# Altium integrated library PersonalLib.IntLib: 51 symbols
Pins are listed as number, name and electrical type; pins without a type are passive.

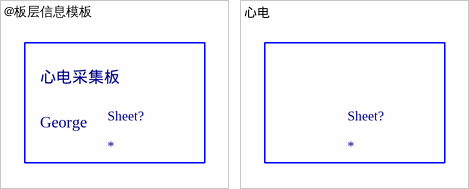
[diagram p0: symbols @板层信息模板 to 心电]

## @板层信息模板
designator Sheet?
text: 心电采集板; George

## 心电
designator Sheet?
footprint 心电V1.0.1


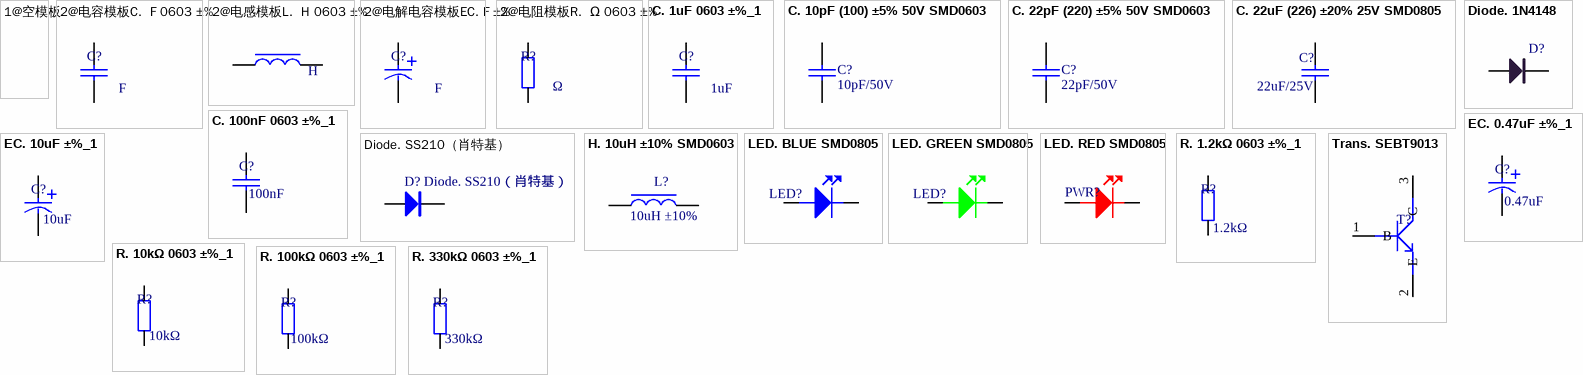
[diagram p1: symbols 1@空模板 to Trans. SEBT9013]

## 1@空模板
designator ?  (value not drawn)
A.元件编号: *; B.元件名称: *; C.元件类型: *; D.元件型号: *; E.封装规格: *; F.阻值(Ω)/容值(μF): *; G.电压: *; H.精度: *; I.焊盘数量: *; J.品牌产地: *; 单价/元: *; 原创: *; 备注: *

## 2@电容模板C.  F 0603 ±%
designator C?, comment value F  (hidden comment: 2@电容模板 F 0603 ±%)
A.元件编号: *; B.元件名称: *; C.元件类型: *; D.元件型号: *; E.封装规格: *; F.阻值(Ω)/容值(μF): *; G.电压: *; H.精度: *; I.焊盘数量: *; J.品牌产地: *; 单价/元: *; 原创: *; 备注: *
footprint C 0603
pins: 1, 2

## 2@电感模板L.  H 0603 ±%
designator ?  value H
A.元件编号: *; B.元件名称: *; C.元件类型: *; D.元件型号: *; E.封装规格: *; F.阻值(Ω)/容值(μF): *; G.电压: *; H.精度: *; I.焊盘数量: *; J.品牌产地: *; 单价/元: *; 原创: *; 备注: *
footprint L 0603
pins: 1, 2

## 2@电解电容模板EC. F ±%
designator C?, comment value F  (hidden comment: 2@电解电容模板 F ±%)
A.元件编号: *; B.元件名称: *; C.元件类型: *; D.元件型号: *; E.封装规格: *; F.阻值(Ω)/容值(μF): *; G.电压: *; H.精度: *; I.焊盘数量: *; J.品牌产地: *; 单价/元: *; 原创: *; 备注: *
footprint SMD 4x5.3mm 0.47uf
footprint SMD 4x5.7mm 10uf
pins: 1, 2

## 2@电阻模板R.  Ω 0603 ±%
designator R?  value Ω
A.元件编号: *; B.元件名称: *; C.元件类型: *; D.元件型号: *; E.封装规格: *; F.阻值(Ω)/容值(μF): *; G.电压: *; H.精度: *; I.焊盘数量: *; J.品牌产地: *; 单价/元: *; 原创: *; 备注: *
footprint R 0603
pins: 1, 2

## C. 1uF 0603 ±%_1
designator C?  value 1uF  (hidden comment: C. 1uF 0603 ±%_1)
A.元件编号: *; B.元件名称: *; C.元件类型: *; D.元件型号: *; E.封装规格: *; F.阻值(Ω)/容值(μF): *; G.电压: *; H.精度: *; I.焊盘数量: *; J.品牌产地: *; 单价/元: *; 原创: *; 备注: *
footprint C 0603
pins: 1, 2

## C. 10pF (100) ±5% 50V SMD0603
designator C?  value 10pF/50V  (hidden comment: C. 10pF (100) ±5% 50V SMD0603)
贴片电容，10pF/50V，±5%，SMD0603，SAMSUNG(三星)，CL10C100JB8NNNC; A.元件编号: C1634; C.元件类别: 贴片电容; E.封装规格: 0603; F.阻值(Ω)/容值(uF): 0.0000100000; G.电压: 50.00; I.焊盘数量: 2; 备注: 立创可贴片元器件; 单价/元（大批量）: 0.0066; B.元件名称: 10pF (100) ±5% 50V; D.元件型号: CL10C100JB8NNNC; H.精度: ±5%; J.品牌产地: SAMSUNG(三星)
footprint C 0603 (无极性贴片电容)
pins: 1, 2

## C. 22pF (220) ±5% 50V SMD0603
designator C?  value 22pF/50V  (hidden comment: C. 22pF (220) ±5% 50V SMD0603)
贴片电容，22pF/50V，±5%，SMD0603，SAMSUNG(三星)，CL10C220JB8NNNC; A.元件编号: C1653; C.元件类别: 贴片电容; E.封装规格: 0603; F.阻值(Ω)/容值(uF): 0.0000220000; G.电压: 50.00; I.焊盘数量: 2; 备注: 立创可贴片元器件; 单价/元（大批量）: 0.0067; B.元件名称: 22pF (220) ±5% 50V; D.元件型号: CL10C220JB8NNNC; H.精度: ±5%; J.品牌产地: SAMSUNG(三星)
footprint C 0603 (无极性贴片电容)
pins: 1, 2

## C. 22uF (226) ±20% 25V SMD0805
designator C?  value 22uF/25V  (hidden comment: C. 22uF (226) ±20% 25V SMD0805)
贴片电容，22uF/25V，±20%，SMD0805，SAMSUNG(三星)，CL21A226MAQNNNE; A.元件编号: C45783; C.元件类别: 贴片电容; E.封装规格: 0805; F.阻值(Ω)/容值(uF): 22.0000000000; G.电压: 25.00; I.焊盘数量: 2; 备注: 立创可贴片元器件; 单价/元（大批量）: 0.134; B.元件名称: 22uF (226) ±20% 25V; D.元件型号: CL21A226MAQNNNE; H.精度: ±20%; J.品牌产地: SAMSUNG(三星)
footprint C 0805 (无极性贴片电容)
pins: 1, 2

## C. 100nF 0603 ±%_1
designator C?, comment value 100nF  (hidden comment: 100nF 0603 ±%_1)
A.元件编号: *; B.元件名称: *; C.元件类型: *; D.元件型号: *; E.封装规格: *; F.阻值(Ω)/容值(μF): *; G.电压: *; H.精度: *; I.焊盘数量: *; J.品牌产地: *; 单价/元: *; 原创: *; 备注: *
footprint C 0603
pins: 1, 2

## Diode. 1N4148
designator D?
C.元件类别: 二极管; I.焊盘数量: 2; F.阻值(Ω)/容值(uF): *; Value: *; H.精度: *
footprint SOD-123 (1N4148W)
pins: 1 A, 2 K

## Diode. SS210（肖特基）
designator D?
肖特基二极管，SS210，100V/2A，SMA(DO-214AC)，星海，SS210; A.元件编号: C14996; D.元件型号: SS210; C.元件类别: 二极管; 备注: 立创可贴片元器件; I.焊盘数量: 2; J.品牌产地: MMD; 单价/元（大批量）: 0.0895; G.电压: 100V，2A，VF=0.85V@2A; F.阻值(Ω)/容值(uF): *; Value: *; B.元件名称: SS210; E.封装规格: SMA(DO-214AC); H.精度: *
footprint SMA
pins: 1 A, 2 K

## EC. 0.47uF ±%_1
designator C?, comment value 0.47uF  (hidden comment: ec 0.47uF ±%_1)
A.元件编号: *; B.元件名称: *; C.元件类型: *; D.元件型号: *; E.封装规格: *; F.阻值(Ω)/容值(μF): *; G.电压: *; H.精度: *; I.焊盘数量: *; J.品牌产地: *; 单价/元: *; 原创: *; 备注: *
footprint SMD 4x5.3mm 0.47uf
pins: 1, 2

## EC. 10uF ±%_1
designator C?, comment value 10uF  (hidden comment: ec 10uF ±%_1)
A.元件编号: *; B.元件名称: *; C.元件类型: *; D.元件型号: *; E.封装规格: *; F.阻值(Ω)/容值(μF): *; G.电压: *; H.精度: *; I.焊盘数量: *; J.品牌产地: *; 单价/元: *; 原创: *; 备注: *
footprint SMD 4x5.7mm 10uf
pins: 1, 2

## H. 10uH ±10% SMD0603
designator L?  value 10uH ±10%  (hidden comment: H. 10uH ±10% SMD0603)
贴片电感，10uH，±10%，SMD0603，Sunlord(顺络)，SDFL1608S100KTF; A.元件编号: C1035; C.元件类别: 贴片电感; E.封装规格: 0603; F.阻值(Ω)/容值(uF): 10.0000000000; I.焊盘数量: 2; 备注: 立创可贴片元器件; 单价/元（大批量）: 0.038; B.元件名称: 10uH ±10%; D.元件型号: SDFL1608S100KTF; H.精度: ±10%; J.品牌产地: Sunlord(顺络)
footprint L 0603 (小功率贴片电感)
pins: 1, 2

## LED. BLUE SMD0805
designator LED?  (value not drawn)
蓝色发光二极管，SMD0805，国星光电，FC-A2012BK-470H2; A.元件编号: C84259; 备注: 立创可贴片元器件; B.元件名称: 蓝灯 贴片LED (20-55mcd) 编带; C.元件类别: 发光二极管; E.封装规格: 0805; I.焊盘数量: 2; J.品牌产地: 国星光电; 单价/元（大批量）: 0.0735; Value: *; D.元件型号: FC-A2012BK-470H2; F.阻值(Ω)/容值(uF): blue; G.电压: *; H.精度: *
footprint LED 0805B
pins: 1 A, 2 K

## LED. GREEN SMD0805
designator LED?  (value not drawn)
翠绿发光二极管 ，SMD0805，国产，0805G (翠绿); A.元件编号: C2297; 备注: 立创可贴片元器件; C.元件类别: 发光二极管; E.封装规格: 0805; I.焊盘数量: 2; J.品牌产地: 国产; 单价/元（大批量）: 0.052; B.元件名称: 翠绿; D.元件型号: 0805G (翠绿); F.阻值(Ω)/容值(uF): green; G.电压: *; H.精度: *; Value: *
footprint LED 0805G
pins: 1 A, 2 K

## LED. RED SMD0805
designator PWR?  (value not drawn)
红色发光二极管，SMD0805，国星光电 ，FC-2012HRK-620D; A.元件编号: C84256; 备注: 立创可贴片元器件; B.元件名称: 红灯 贴片LED (80-180mcd) 编带; C.元件类别: 发光二极管; E.封装规格: 0805（红色）; J.品牌产地: 国星光电; I.焊盘数量: 2; 单价/元（大批量）: 0.0452; D.元件型号: FC-2012HRK-620D; F.阻值(Ω)/容值(uF): red; G.电压: *; H.精度: *; Value: *
footprint LED 0805R
pins: 1 A, 2 K

## R. 1.2kΩ 0603 ±%_1
designator R?  value 1.2kΩ
A.元件编号: *; B.元件名称: *; C.元件类型: *; D.元件型号: *; E.封装规格: *; F.阻值(Ω)/容值(μF): *; G.电压: *; H.精度: *; I.焊盘数量: *; J.品牌产地: *; 单价/元: *; 原创: *; 备注: *
footprint R 0603
pins: 1, 2

## R. 10kΩ 0603 ±%_1
designator R?  value 10kΩ
A.元件编号: *; B.元件名称: *; C.元件类型: *; D.元件型号: *; E.封装规格: *; F.阻值(Ω)/容值(μF): *; G.电压: *; H.精度: *; I.焊盘数量: *; J.品牌产地: *; 单价/元: *; 原创: *; 备注: *
footprint R 0603
pins: 1, 2

## R. 100kΩ 0603 ±%_1
designator R?  value 100kΩ
A.元件编号: *; B.元件名称: *; C.元件类型: *; D.元件型号: *; E.封装规格: *; F.阻值(Ω)/容值(μF): *; G.电压: *; H.精度: *; I.焊盘数量: *; J.品牌产地: *; 单价/元: *; 原创: *; 备注: *
footprint R 0603
pins: 1, 2

## R. 330kΩ 0603 ±%_1
designator R?  value 330kΩ
A.元件编号: *; B.元件名称: *; C.元件类型: *; D.元件型号: *; E.封装规格: *; F.阻值(Ω)/容值(μF): *; G.电压: *; H.精度: *; I.焊盘数量: *; J.品牌产地: *; 单价/元: *; 原创: *; 备注: *
footprint R 0603
pins: 1, 2

## Trans. SEBT9013
designator T?, comment 1@空模板  (value not drawn)
NPN三级管 25V 500mA; A.元件编号: *; B.元件名称: *; C.元件类型: *; D.元件型号: *; E.封装规格: *; F.阻值(Ω)/容值(μF): *; G.电压: *; H.精度: *; I.焊盘数量: *; J.品牌产地: *; 单价/元: *; 原创: *; 备注: *
footprint SOT23-3
pins: 1 B, 2 E, 3 C


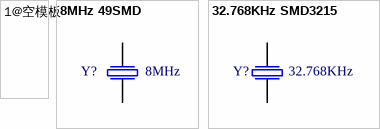
[diagram p2: symbols 1@空模板 to 32.768KHz SMD3215]

## 1@空模板
designator ?  (value not drawn)
A.元件编号: *; B.元件名称: *; C.元件类型: *; D.元件型号: *; E.封装规格: *; F.阻值(Ω)/容值(μF): *; G.电压: *; H.精度: *; I.焊盘数量: *; J.品牌产地: *; 单价/元: *; 原创: *; 备注: *

## 8MHz 49SMD
designator Y?  value 8MHz  (hidden comment: 8MHz 49SMD)
贴片晶振，49SMD， 8MHz，HC-49SMD，YXC; A.元件编号: C12674; 备注: 立创非可贴片元器件; B.元件名称: HC-49SMD 8MHZ 20PF 20PPM; D.元件型号: X49SM8MSD2SC; I.焊盘数量: 2; J.品牌产地: YXC; 单价/元（大批量）: 0.366; C.元件类别: 49SMD; E.封装规格: HC-49SMD; F.阻值(Ω)/容值(uF): *; G.电压: *; H.精度: *
footprint XTAL-49S SMD
pins: 1, 2

## 32.768KHz SMD3215
designator Y?  value 32.768KHz  (hidden comment: 32.768KHz SMD3215)
贴片晶振，SMD3215，32.768KHz，EPSON(爱普生)，Q13FC1350000400; 备注: 立创非可贴片元器件; B.元件名称: 32.768KHz ±20ppm 12.5pF; C.元件类别: 贴片晶振; A.元件编号: C32346; I.焊盘数量: 2; 单价/元（大批量）: 0.65; J.品牌产地: EPSON(爱普生); E.封装规格: SMD-3215; D.元件型号: Q13FC1350000400; F.阻值(Ω)/容值(uF): *; H.精度: *; G.电压: *
footprint XTAL-3215
pins: 1, 2


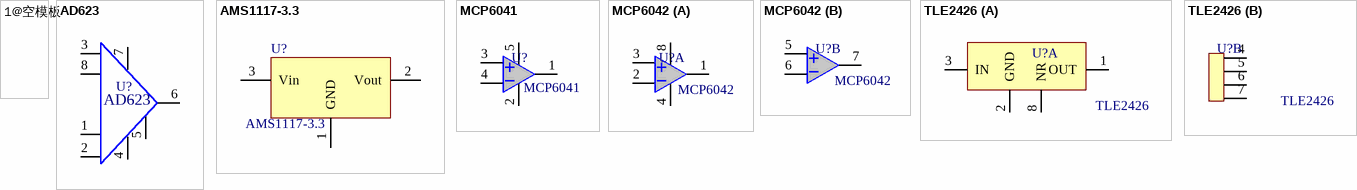
[diagram p3: symbols 1@空模板 to TLE2426]

## 1@空模板
designator ?  (value not drawn)
A.元件编号: *; B.元件名称: *; C.元件类型: *; D.元件型号: *; E.封装规格: *; F.阻值(Ω)/容值(μF): *; G.电压: *; H.精度: *; I.焊盘数量: *; J.品牌产地: *; 单价/元: *; 原创: *; 备注: *

## AD623
designator U?  (value not drawn)
仪表放大器; A.元件编号: *; B.元件名称: *; C.元件类型: *; D.元件型号: *; E.封装规格: *; F.阻值(Ω)/容值(μF): *; G.电压: *; H.精度: *; I.焊盘数量: *; J.品牌产地: *; 单价/元: *; 原创: *; 备注: *
footprint SOIC-8 (SOIC, 8-Leads, Body 4.90x3.90mm, Pitch 1.27mm, IPC Medium Density)
pins: 1, 2, 3, 4, 5, 6, 7, 8

## AMS1117-3.3
designator U?
低压差线性稳压(LDO)，AMS1117-3.3，1117-3.3，美国AMS，AMS1117-3.3; A.元件编号: C6186; 备注: 立创可贴片元器件; I.焊盘数量: 4; E.封装规格: SOT-223; J.品牌产地: 美国AMS; 单价/元（大批量）: 0.484; D.元件型号: AMS1117-3.3; C.元件类别: 低压差线性稳压(LDO); F.阻值(Ω)/容值(uF): 1117-3.3; Value: *; B.元件名称: AMS1117-3.3; H.精度: *; G.电压: *
footprint SOT223_N
pins: 1 GND, 2 Vout, 3 Vin

## MCP6041
designator U?
RTR运算放大器; A.元件编号: *; C.元件类型: *; D.元件型号: *; E.封装规格: *; F.阻值(Ω)/容值(μF): *; G.电压: *; H.精度: *; I.焊盘数量: *; J.品牌产地: *; 单价/元: *; 原创: *; 备注: *; B.元件名称: MCP6041
footprint SOT23-5 (SOT143-4 as used in SP0503BAHTG)
pins: 1, 2, 3, 4, 5

## MCP6042
designator U?
A.元件编号: *; C.元件类型: *; D.元件型号: *; E.封装规格: *; F.阻值(Ω)/容值(μF): *; G.电压: *; H.精度: *; I.焊盘数量: *; J.品牌产地: *; 单价/元: *; 原创: *; 备注: *; B.元件名称: MCP6042
footprint SOIC-8 (SOIC, 8-Leads, Body 4.90x3.90mm, Pitch 1.27mm, IPC Medium Density)
part A pins: 1, 2, 3, 4, 8
part B pins: 5, 6, 7

## TLE2426
designator U?
1/2电压; A.元件编号: *; C.元件类型: *; D.元件型号: *; E.封装规格: *; F.阻值(Ω)/容值(μF): *; G.电压: *; H.精度: *; I.焊盘数量: *; J.品牌产地: *; 单价/元: *; 原创: *; 备注: *; B.元件名称: TLE2426
footprint SOIC-8 (SOIC, 8-Leads, Body 4.90x3.90mm, Pitch 1.27mm, IPC Medium Density)
part A pins: 1 OUT, 2 GND, 3 IN, 8 NR
part B pins: 4, 5, 6, 7


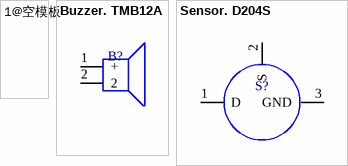
[diagram p4: symbols 1@空模板 to Sensor. D204S]

## 1@空模板
designator ?  (value not drawn)
A.元件编号: *; B.元件名称: *; C.元件类型: *; D.元件型号: *; E.封装规格: *; F.阻值(Ω)/容值(μF): *; G.电压: *; H.精度: *; I.焊盘数量: *; J.品牌产地: *; 单价/元: *; 原创: *; 备注: *

## Buzzer. TMB12A
designator B?
3/5V蜂鸣器; A.元件编号: *; B.元件名称: *; C.元件类型: *; D.元件型号: *; E.封装规格: *; F.阻值(Ω)/容值(μF): *; G.电压: *; H.精度: *; I.焊盘数量: *; J.品牌产地: *; 单价/元: *; 原创: *; 备注: *
footprint TMB12A
pins: 1 +, 2

## Sensor. D204S
designator S?
热释电红外传感器; A.元件编号: *; B.元件名称: *; C.元件类型: *; D.元件型号: *; E.封装规格: *; F.阻值(Ω)/容值(μF): *; G.电压: *; H.精度: *; I.焊盘数量: *; J.品牌产地: *; 单价/元: *; 原创: *; 备注: *
footprint D204S (热释电红外传感器)
pins: 1 D, 2 S, 3 GND


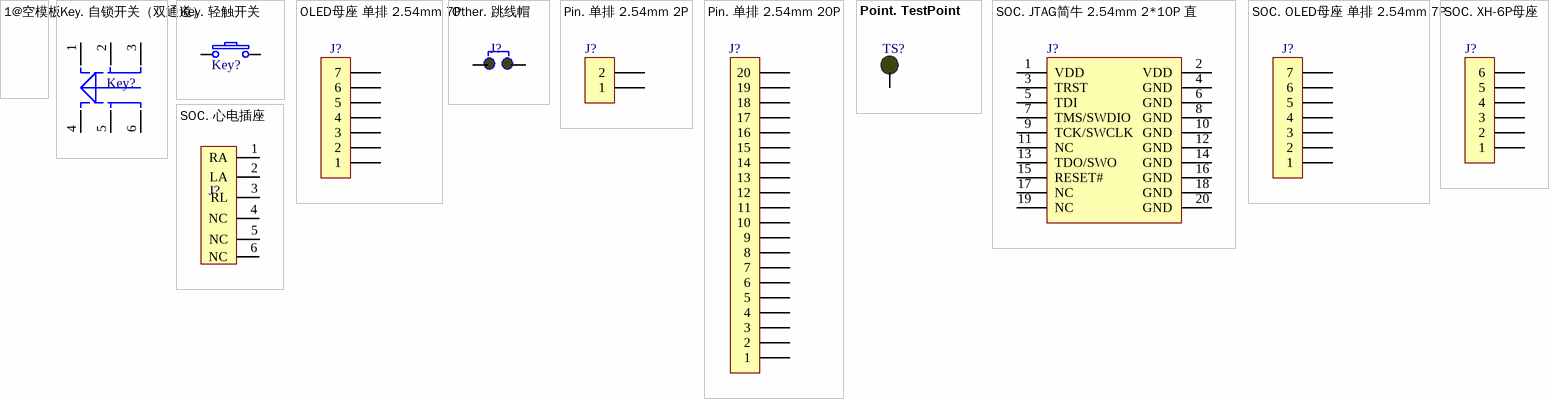
[diagram p5: symbols 1@空模板 to SOC. 心电插座]

## 1@空模板
designator ?  (value not drawn)
A.元件编号: *; B.元件名称: *; C.元件类型: *; D.元件型号: *; E.封装规格: *; F.阻值(Ω)/容值(μF): *; G.电压: *; H.精度: *; I.焊盘数量: *; J.品牌产地: *; 单价/元: *; 原创: *; 备注: *

## Key. 自锁开关（双通道）
designator Key?  (value not drawn)
按下1-2,4-5接通，松开2-3,5-6接通; A.元件编号: C118141; 备注: 立创非可贴片元器件; B.元件名称: 轻触开关 3.6*6.1*2.5 灰头; C.元件类别: 轻触开关; E.封装规格: SMD/3.6*6.1*2.5; I.焊盘数量: 2; J.品牌产地: 韩国韩荣; 单价/元（大批量）: 0.21; D.元件型号: 轻触开关 3.6*6.1*2.5 灰头; F.阻值(Ω)/容值(uF): *; G.电压: *; H.精度: *; Value: *
footprint Double-Channel self-locking push key
pins: 1, 2, 3, 4, 5, 6

## Key. 轻触开关
designator Key?  (value not drawn)
贴片轻触开关，  灰头，  3.6*6.1*2.5，SMD/3.6*6.1*2.5; A.元件编号: C118141; 备注: 立创非可贴片元器件; B.元件名称: 轻触开关 3.6*6.1*2.5 灰头; I.焊盘数量: 2; J.品牌产地: 韩国韩荣; 单价/元（大批量）: 0.21; C.元件类别: 轻触开关; D.元件型号: 轻触开关 3.6*6.1*2.5 灰头; E.封装规格: SMD/3.6*6.1*2.5; F.阻值(Ω)/容值(uF): *; G.电压: *; H.精度: *; Value: *
footprint TSW SMD-6*6*5
footprint TSW SMD-3.6*6.1*2.5
pins: 1, 2

## OLED母座 单排 2.54mm 7P
designator J?  (value not drawn)
OLED母座，单排，2.54mm，7P; 备注: 立创非可贴片元器件，C5303，2.54mm 1*40T 直 排母，后加工; C.元件类别: 排母; E.封装规格: HDR-1X7; I.焊盘数量: 7; 单价/元（大批量）: 0.66; Value: *; A.元件编号: *; B.元件名称: OLED母座 单排 2.54mm 7P; H.精度: *; G.电压: *; F.阻值(Ω)/容值(uF): *; J.品牌产地: *
footprint OLED SIP2.54-7P
pins: 1, 2, 3, 4, 5, 6, 7

## Other. 跳线帽
designator J?  (value not drawn)
A.元件编号: *; B.元件名称: *; C.元件类型: *; D.元件型号: *; E.封装规格: *; F.阻值(Ω)/容值(μF): *; G.电压: *; H.精度: *; I.焊盘数量: *; J.品牌产地: *; 单价/元: *; 原创: *; 备注: *
footprint HDR-1x2
pins: 1, 2

## Pin. 单排 2.54mm 2P
designator J?  (value not drawn)
排针，单排，2.54mm，2P，国产; 备注: 立创非可贴片元器件，C2337，2.54mm 1*40P 直 排针，后加工; C.元件类别: 排针; E.封装规格: HDR-1X2; B.元件名称: 2.54mm 1*2P 直 排针; I.焊盘数量: 2; 单价/元（大批量）: 0.31; Value: *; A.元件编号: *; D.元件型号: *; H.精度: *; G.电压: *; F.阻值(Ω)/容值(uF): *; J.品牌产地: *
footprint HDR-1x2
pins: 1, 2

## Pin. 单排 2.54mm 20P
designator J?  (value not drawn)
排针，单排，2.54mm，20P，国产; 备注: 立创非可贴片元器件，C2337，2.54mm 1*40P 直 排针，后加工; C.元件类别: 排针; E.封装规格: HDR-1X20; B.元件名称: 2.54mm 20P 直 排针; I.焊盘数量: 20; 单价/元（大批量）: 0.31; Value: *; A.元件编号: *; D.元件型号: *; H.精度: *; G.电压: *; F.阻值(Ω)/容值(uF): *; J.品牌产地: *
footprint HDR-1X20
pins: 1, 2, 3, 4, 5, 6, 7, 8, 9, 10, 11, 12, 13, 14, 15, 16, 17, 18, 19, 20

## Point. TestPoint
designator TS?, comment 测试点  (value not drawn)
A.元件编号: *; B.元件名称: *; C.元件类型: *; D.元件型号: *; E.封装规格: *; F.阻值(Ω)/容值(μF): *; G.电压: *; H.精度: *; I.焊盘数量: *; J.品牌产地: *; 单价/元: *; 原创: *; 备注: *
footprint singleXH-2.54mm (测试点)
pins: 1

## SOC. JTAG简牛 2.54mm 2*10P 直
designator J?  (value not drawn)
简牛，2.54mm，2*10P，直，国产; 备注: 立创非可贴片元器件; A.元件编号: C3405; C.元件类别: 牛角连接器; E.封装规格: DIP-20; I.焊盘数量: 20; J.品牌产地: 国产; 单价/元（大批量）: 0.33; B.元件名称: 简牛 2.54mm 2*10P 直; D.元件型号: 简牛 2.54mm 2*10P 直; F.阻值(Ω)/容值(uF): *; G.电压: *; H.精度: *
footprint IDC2.54-20P
pins: 1 VDD, 2 VDD, 3 TRST, 4 GND, 5 TDI, 6 GND, 7 TMS/SWDIO, 8 GND, 9 TCK/SWCLK, 10 GND, 11 NC, 12 GND, 13 TDO/SWO, 14 GND, 15 RESET#, 16 GND, 17 NC, 18 GND, 19 NC, 20 GND

## SOC. OLED母座 单排 2.54mm 7P
designator J?  (value not drawn)
OLED母座，单排，2.54mm，7P; 备注: 立创非可贴片元器件，C5303，2.54mm 1*40T 直 排母，后加工; C.元件类别: 排母; E.封装规格: HDR-1X7; I.焊盘数量: 7; 单价/元（大批量）: 0.66; Value: *; A.元件编号: *; B.元件名称: OLED母座 单排 2.54mm 7P; H.精度: *; G.电压: *; F.阻值(Ω)/容值(uF): *; J.品牌产地: *
footprint OLED SIP2.54-7P
pins: 1, 2, 3, 4, 5, 6, 7

## SOC. XH-6P母座
designator J?  (value not drawn)
XH-6A，脚距2.54mm，直针带锁，国产; 备注: 立创非可贴片元器件; A.元件编号: C70009; B.元件名称: XB-6A，6P，脚距2.54mm，直针; C.元件类别: XH连接器; D.元件型号: XHB-6A 直针白色; E.封装规格: XH2.54-6P; I.焊盘数量: 6; J.品牌产地: 国产; 单价/元（大批量）: 0.0755; Value: *; F.阻值(Ω)/容值(uF): *; G.电压: *; H.精度: *
footprint XH2.54-6P
pins: 1, 2, 3, 4, 5, 6

## SOC. 心电插座
designator J?  (value not drawn)
A.元件编号: *; B.元件名称: *; C.元件类型: *; D.元件型号: *; E.封装规格: *; F.阻值(Ω)/容值(μF): *; G.电压: *; H.精度: *; I.焊盘数量: *; J.品牌产地: *; 单价/元: *; 原创: *; 备注: *
footprint XH2.54-6P
pins: 1 RA, 2 LA, 3 RL, 4 NC, 5 NC, 6 NC


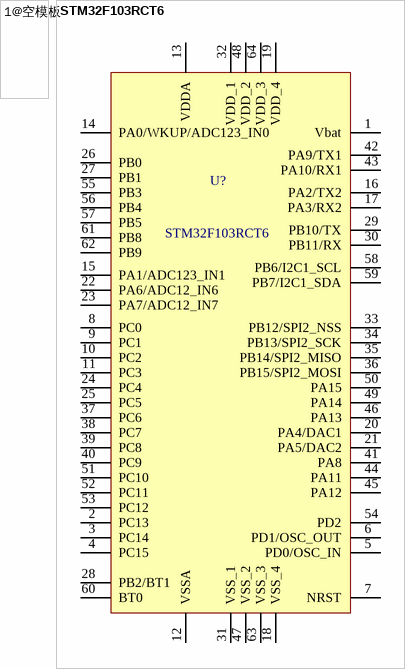
[diagram p6: symbols 1@空模板 to STM32F103RCT6]

## 1@空模板
designator ?  (value not drawn)
A.元件编号: *; B.元件名称: *; C.元件类型: *; D.元件型号: *; E.封装规格: *; F.阻值(Ω)/容值(μF): *; G.电压: *; H.精度: *; I.焊盘数量: *; J.品牌产地: *; 单价/元: *; 原创: *; 备注: *

## STM32F103RCT6
designator U?
微控制器，LQFP64，ST(意法半导体)，STM32F103RCT6; A.元件编号: C8323; 备注: 立创可贴片元器件; E.封装规格: LQFP-64; I.焊盘数量: 64; 单价/元（大批量）: 13.04; Value: *; B.元件名称: STM32F103RCT6; C.元件类别: ST(意法半导体); D.元件型号: STM32F103RCT6; F.阻值(Ω)/容值(uF): *; G.电压: *; H.精度: *; J.品牌产地: ST(意法半导体)
footprint LQFP64 10x10_N
pins: 1 Vbat, 2 PC13, 3 PC14, 4 PC15, 5 PD0/OSC_IN, 6 PD1/OSC_OUT, 7 NRST, 8 PC0, 9 PC1, 10 PC2, 11 PC3, 12 VSSA, 13 VDDA, 14 PA0/WKUP/ADC123_IN0, 15 PA1/ADC123_IN1, 16 PA2/TX2, 17 PA3/RX2, 18 VSS_4, 19 VDD_4, 20 PA4/DAC1, 21 PA5/DAC2, 22 PA6/ADC12_IN6, 23 PA7/ADC12_IN7, 24 PC4, 25 PC5, 26 PB0, 27 PB1, 28 PB2/BT1, 29 PB10/TX, 30 PB11/RX, 31 VSS_1, 32 VDD_1, 33 PB12/SPI2_NSS, 34 PB13/SPI2_SCK, 35 PB14/SPI2_MISO, 36 PB15/SPI2_MOSI, 37 PC6, 38 PC7, 39 PC8, 40 PC9, 41 PA8, 42 PA9/TX1, 43 PA10/RX1, 44 PA11, 45 PA12, 46 PA13, 47 VSS_2, 48 VDD_2, 49 PA14, 50 PA15, 51 PC10, 52 PC11, 53 PC12, 54 PD2, 55 PB3, 56 PB4, 57 PB5, 58 PB6/I2C1_SCL, 59 PB7/I2C1_SDA, 60 BT0, 61 PB8, 62 PB9, 63 VSS_3, 64 VDD_3